# EAGLE library part UBLOX_GS406 (library 3DRobotics_Master_Library)
uBlox connector made by Jordi.
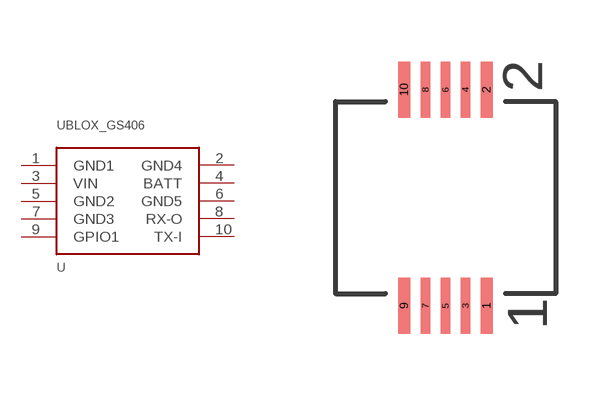
[diagram p3: symbol with the pads of GS406; footprint GS406]

Designator prefix -

## UBLOX_GS406  [GS406]
1  GND1  pwr
2  GND4
3  VIN  pwr
4  BATT
5  GND2
6  GND5
7  GND3
8  RX-O
9  GPIO1  nc
10  TX-I

## Footprint GS406 (pad centres in mm)
Ublox Connector made by Jordi Munoz.
smd 0.3 x 1.4: 1 1.03,-2.7; 2 1.03,2.7; 9 -1.03,-2.7; 10 -1.03,2.7
smd 0.24 x 1.4: 3 0.5,-2.7; 4 0.5,2.7; 5 0,-2.7; 6 0,2.7; 7 -0.5,-2.7; 8 -0.5,2.7